# Altium integrated library TI Power Management Standard Voltage Regulator.IntLib: 214 symbols (part 4 of 7)
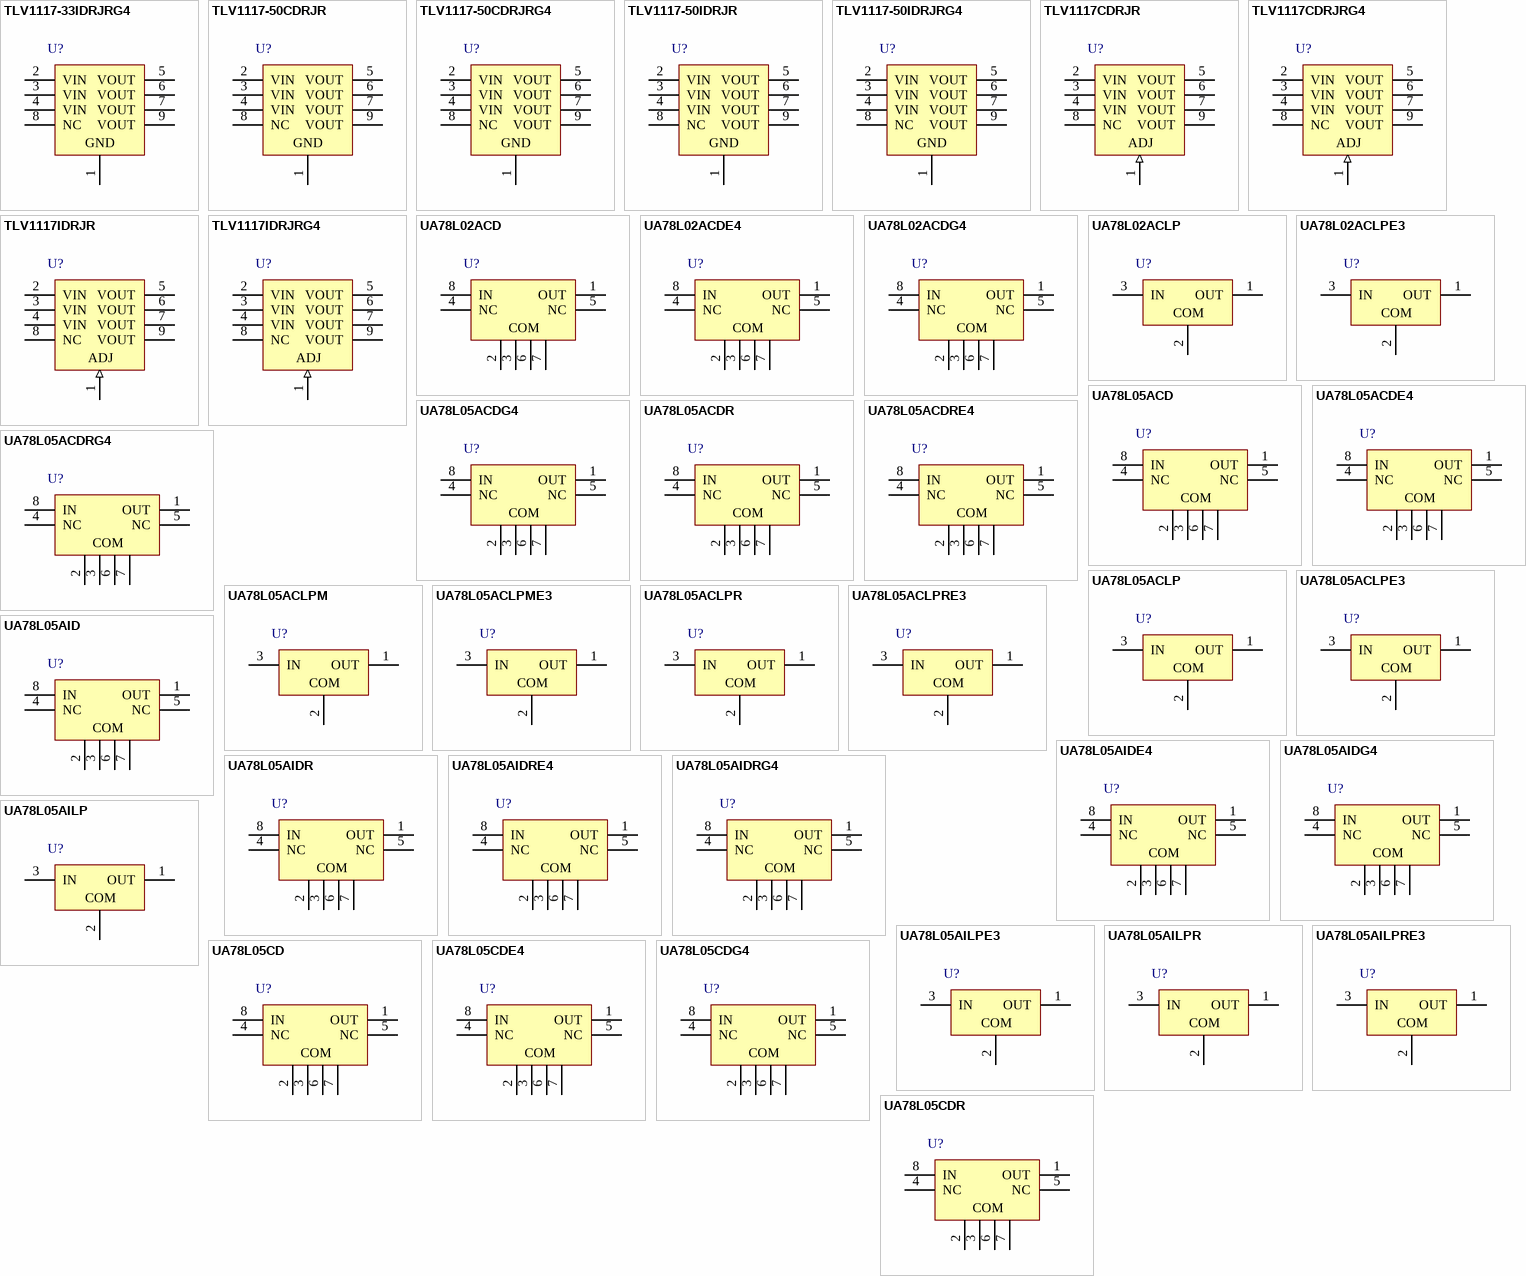
[diagram p9: symbols TLV1117-33IDRJRG4 to UA78L05CDR]

## TLV1117CDRJRG4
designator U?
LDO with 2.7 to 15 V Input and 1.25 to 13.7 V Output, 0 to 125 degC, 8-Pin SON (DRJ), Green (RoHS & no Sb/Br); Manufacturer: Texas Instruments; PartNumber: TLV1117CDRJRG4; Iout(Max)(A): 0.8; Iq(Typ)(mA): 5; Vin(Max)(V): 15; Vin(Min)(V): 2.7; Vout(Max)(V): 13.7; Vout(Min)(V): 1.25; DatasheetVersion: SLVS561J; PackageVersion: revC, Dec-2010; PackageReference: DRJ8-3000X2200TP; PackageDescription: 8-Pin Plastic Small Outline No-Lead, 4 x 4 x 0.8 mm Body, 0.8 mm Pitch, Exposed Pad; Supplier 1: Digi-Key; Supplier Part Number 1: TLV1117CDRJRG4-ND; Supplier 2: Newark; Supplier Part Number 2: 84K3788; Supplier 3: Mouser; Supplier Part Number 3: 595-TLV1117CDRJRG4; Eco-Plan: Green (RoHS & no Sb/Br); Mounting Technology: Surface Mount; ComponentLink1Description: Datasheet; ComponentLink1URL: http://www.ti.com/general/docs/lit/getliterature.tsp?genericPartNumber=TLV1117&fileType=pdf; ComponentLink2Description: Package Specification; ComponentLink2URL: http://www.ti.com/litv/pdf/mpds153b; ComponentLink3Description: URL Link1; ComponentLink3URL: Samples URL:http://www.ti.com/product/tlv1117#samples
footprint DRJ8-3000X2200TP (SON, 8-Leads, Body 4x4mm, Pitch 0.8mm, Thermal Pad 3x2.2mm, TI Recommended)
pins: 1 ADJ (in), 2 VIN (power), 3 VIN (power), 4 VIN (power), 5 VOUT (power), 6 VOUT (power), 7 VOUT (power), 8 NC, 9 VOUT (power)

## TLV1117IDRJR
designator U?
LDO with 2.7 to 15 V Input and 1.25 to 13.7 V Output, -40 to 125 degC, 8-Pin SON (DRJ), Green (RoHS & no Sb/Br); Manufacturer: Texas Instruments; PartNumber: TLV1117IDRJR; Iout(Max)(A): 0.8; Iq(Typ)(mA): 5; Vin(Max)(V): 15; Vin(Min)(V): 2.7; Vout(Max)(V): 13.7; Vout(Min)(V): 1.25; DatasheetVersion: SLVS561J; PackageVersion: revC, Dec-2010; PackageReference: DRJ8-3000X2200TP; PackageDescription: 8-Pin Plastic Small Outline No-Lead, 4 x 4 x 0.8 mm Body, 0.8 mm Pitch, Exposed Pad; Supplier 1: Digi-Key; Supplier Part Number 1: 296-19517-2-ND; Supplier 2: Digi-Key; Supplier Part Number 2: 296-19517-1-ND; Supplier 3: Digi-Key; Supplier Part Number 3: 296-19517-6-ND; Supplier 4: Newark; Supplier Part Number 4: 80K3288; Supplier 5: Mouser; Supplier Part Number 5: 595-TLV1117IDRJR; Eco-Plan: Green (RoHS & no Sb/Br); Mounting Technology: Surface Mount; ComponentLink1Description: Datasheet; ComponentLink1URL: http://www.ti.com/general/docs/lit/getliterature.tsp?genericPartNumber=TLV1117&fileType=pdf; ComponentLink2Description: Package Specification; ComponentLink2URL: http://www.ti.com/litv/pdf/mpds153b; ComponentLink3Description: URL Link1; ComponentLink3URL: Samples URL:http://www.ti.com/product/tlv1117#samples
footprint DRJ8-3000X2200TP (SON, 8-Leads, Body 4x4mm, Pitch 0.8mm, Thermal Pad 3x2.2mm, TI Recommended)
pins: 1 ADJ (in), 2 VIN (power), 3 VIN (power), 4 VIN (power), 5 VOUT (power), 6 VOUT (power), 7 VOUT (power), 8 NC, 9 VOUT (power)

## TLV1117IDRJRG4
designator U?
LDO with 2.7 to 15 V Input and 1.25 to 13.7 V Output, -40 to 125 degC, 8-Pin SON (DRJ), Green (RoHS & no Sb/Br); Manufacturer: Texas Instruments; PartNumber: TLV1117IDRJRG4; Iout(Max)(A): 0.8; Iq(Typ)(mA): 5; Vin(Max)(V): 15; Vin(Min)(V): 2.7; Vout(Max)(V): 13.7; Vout(Min)(V): 1.25; DatasheetVersion: SLVS561J; PackageVersion: revC, Dec-2010; PackageReference: DRJ8-3000X2200TP; PackageDescription: 8-Pin Plastic Small Outline No-Lead, 4 x 4 x 0.8 mm Body, 0.8 mm Pitch, Exposed Pad; Supplier 1: Digi-Key; Supplier Part Number 1: TLV1117IDRJRG4-ND; Supplier 2: Newark; Supplier Part Number 2: 84K3790; Supplier 3: Mouser; Supplier Part Number 3: 595-TLV1117IDRJRG4; Eco-Plan: Green (RoHS & no Sb/Br); Mounting Technology: Surface Mount; ComponentLink1Description: Datasheet; ComponentLink1URL: http://www.ti.com/general/docs/lit/getliterature.tsp?genericPartNumber=TLV1117&fileType=pdf; ComponentLink2Description: Package Specification; ComponentLink2URL: http://www.ti.com/litv/pdf/mpds153b; ComponentLink3Description: URL Link1; ComponentLink3URL: Samples URL:http://www.ti.com/product/tlv1117#samples
footprint DRJ8-3000X2200TP (SON, 8-Leads, Body 4x4mm, Pitch 0.8mm, Thermal Pad 3x2.2mm, TI Recommended)
pins: 1 ADJ (in), 2 VIN (power), 3 VIN (power), 4 VIN (power), 5 VOUT (power), 6 VOUT (power), 7 VOUT (power), 8 NC, 9 VOUT (power)

## UA78L02ACD
designator U?
Fixed Regulator with 4.75 to 20 V Input and 2.6 V Output, 0 to 125 degC, 8-Pin SOIC (D), Green (RoHS & no Sb/Br); Manufacturer: Texas Instruments; PartNumber: UA78L02ACD; Iout(Max)(A): 0.1; Iq(Typ)(mA): 6; Vin(Max)(V): 20; Vin(Min)(V): 4.75; Vout(Max)(V): 2.6; DatasheetVersion: SLVS010S; PackageVersion: revM, Jun-2011; PackageReference: D8; PackageDescription: 8-Pin Plastic Small Outline Integrated Circuit, 4.9 x 3.9 mm, Pitch 1.27 mm Pitch; Supplier 1: Digi-Key; Supplier Part Number 1: 296-11116-5-ND; Supplier 2: Farnell; Supplier Part Number 2: 1461073; Supplier 3: Newark; Supplier Part Number 3: 77C1853; Supplier 4: Mouser; Supplier Part Number 4: 595-UA78L02ACD; Eco-Plan: Green (RoHS & no Sb/Br); Vout(Min)(V): 2.6; Mounting Technology: Surface Mount; Code_JEDEC: MS-012AA; ComponentLink1Description: Datasheet; ComponentLink1URL: http://www.ti.com/general/docs/lit/getliterature.tsp?genericPartNumber=UA78L02A&fileType=pdf; ComponentLink2Description: Package Specification; ComponentLink2URL: http://www.ti.com/litv/pdf/msoi002j; ComponentLink3Description: URL Link1; ComponentLink3URL: Samples URL:http://www.ti.com/product/ua78l02a#samples
footprint D8_N (SOIC, 8-Leads, Body 4.9x3.9mm, Pitch 1.27mm, IPC Medium Density)
footprint D8_L (SOIC, 8-Leads, Body 4.9x3.9mm, Pitch 1.27mm, IPC High Density)
footprint D8_M (SOIC, 8-Leads, Body 4.9x3.9mm, Pitch 1.27mm, IPC Low Density)
pins: 1 OUT (power), 2 COM (power), 3 COM (power), 4 NC, 5 NC, 6 COM (power), 7 COM (power), 8 IN (power)

## UA78L02ACDE4
designator U?
Fixed Regulator with 4.75 to 20 V Input and 2.6 V Output, 0 to 125 degC, 8-Pin SOIC (D), Green (RoHS & no Sb/Br); Manufacturer: Texas Instruments; PartNumber: UA78L02ACDE4; Iout(Max)(A): 0.1; Iq(Typ)(mA): 6; Vin(Max)(V): 20; Vin(Min)(V): 4.75; Vout(Max)(V): 2.6; DatasheetVersion: SLVS010S; PackageVersion: revM, Jun-2011; PackageReference: D8; PackageDescription: 8-Pin Plastic Small Outline Integrated Circuit, 4.9 x 3.9 mm, Pitch 1.27 mm Pitch; Supplier 1: Digi-Key; Supplier Part Number 1: UA78L02ACDE4-ND; Supplier 2: Newark; Supplier Part Number 2: 37K4709; Supplier 3: Mouser; Supplier Part Number 3: 595-UA78L02ACDE4; Eco-Plan: Green (RoHS & no Sb/Br); Vout(Min)(V): 2.6; Mounting Technology: Surface Mount; Code_JEDEC: MS-012AA; ComponentLink1Description: Datasheet; ComponentLink1URL: http://www.ti.com/general/docs/lit/getliterature.tsp?genericPartNumber=UA78L02A&fileType=pdf; ComponentLink2Description: Package Specification; ComponentLink2URL: http://www.ti.com/litv/pdf/msoi002j; ComponentLink3Description: URL Link1; ComponentLink3URL: Samples URL:http://www.ti.com/product/ua78l02a#samples
footprint D8_N (SOIC, 8-Leads, Body 4.9x3.9mm, Pitch 1.27mm, IPC Medium Density)
footprint D8_L (SOIC, 8-Leads, Body 4.9x3.9mm, Pitch 1.27mm, IPC High Density)
footprint D8_M (SOIC, 8-Leads, Body 4.9x3.9mm, Pitch 1.27mm, IPC Low Density)
pins: 1 OUT (power), 2 COM (power), 3 COM (power), 4 NC, 5 NC, 6 COM (power), 7 COM (power), 8 IN (power)

## UA78L02ACDG4
designator U?
Fixed Regulator with 4.75 to 20 V Input and 2.6 V Output, 0 to 125 degC, 8-Pin SOIC (D), Green (RoHS & no Sb/Br); Manufacturer: Texas Instruments; PartNumber: UA78L02ACDG4; Iout(Max)(A): 0.1; Iq(Typ)(mA): 6; SubFamily: Single Channel LDO; Vin(Max)(V): 20; Vin(Min)(V): 4.75; Vout(Max)(V): 2.6; DatasheetVersion: SLVS010S; PackageVersion: revM, Jun-2011; PackageReference: D8; PackageDescription: 8-Pin Plastic Small Outline Integrated Circuit, 4.9 x 3.9 mm, Pitch 1.27 mm Pitch; Supplier 1: Digi-Key; Supplier Part Number 1: UA78L02ACDG4-ND; Supplier 2: Newark; Supplier Part Number 2: 41M6393; Supplier 3: Mouser; Supplier Part Number 3: 595-UA78L02ACDG4; Eco-Plan: Green (RoHS & no Sb/Br); Vout(Min)(V): 2.6; Mounting Technology: Surface Mount; Code_JEDEC: MS-012AA; ComponentLink1Description: Datasheet; ComponentLink1URL: http://www.ti.com/general/docs/lit/getliterature.tsp?genericPartNumber=UA78L02A&fileType=pdf; ComponentLink2Description: Package Specification; ComponentLink2URL: http://www.ti.com/litv/pdf/msoi002j; ComponentLink3Description: URL Link1; ComponentLink3URL: Samples URL:http://www.ti.com/product/ua78l02a
footprint D8_N (SOIC, 8-Leads, Body 4.9x3.9mm, Pitch 1.27mm, IPC Medium Density)
footprint D8_L (SOIC, 8-Leads, Body 4.9x3.9mm, Pitch 1.27mm, IPC High Density)
footprint D8_M (SOIC, 8-Leads, Body 4.9x3.9mm, Pitch 1.27mm, IPC Low Density)
pins: 1 OUT (power), 2 COM (power), 3 COM (power), 4 NC, 5 NC, 6 COM (power), 7 COM (power), 8 IN (power)

## UA78L02ACLP
designator U?
Fixed Regulator with 4.75 to 20 V Input and 2.6 V Output, 0 to 125 degC, 3-Pin TO-92 (LP), Pb-Free (RoHS); Manufacturer: Texas Instruments; PartNumber: UA78L02ACLP; Iout(Max)(A): 0.1; Iq(Typ)(mA): 6; Vin(Max)(V): 20; Vin(Min)(V): 4.75; Vout(Max)(V): 2.6; DatasheetVersion: SLVS010S; PackageVersion: revC, Oct-2001; PackageReference: LP3; PackageDescription: Plastic Cylindrical Package, Formed Lead Option (TO-92); Supplier 1: Digi-Key; Supplier Part Number 1: 296-11117-5-ND; Supplier 2: Newark; Supplier Part Number 2: 14P7576; Supplier 3: Mouser; Supplier Part Number 3: 595-UA78L02ACLP; Eco-Plan: Pb-Free (RoHS); Vout(Min)(V): 2.6; Mounting Technology: Through Hole; Code_JEDEC: TO-226-AA; ComponentLink1Description: Datasheet; ComponentLink1URL: http://www.ti.com/general/docs/lit/getliterature.tsp?genericPartNumber=UA78L02A&fileType=pdf; ComponentLink2Description: Package Specification; ComponentLink2URL: http://www.ti.com/litv/pdf/msot002a; ComponentLink3Description: URL Link1; ComponentLink3URL: Samples URL:http://www.ti.com/product/ua78l02a#samples
footprint LP3 (TO, Flat Index; 3 In-Line, Formed Axial Leads; Body Dia. 4.8mm; Leads 0.56 x 0.41 mm (max))
pins: 1 OUT (power), 2 COM (power), 3 IN (power)

## UA78L02ACLPE3
designator U?
Fixed Regulator with 4.75 to 20 V Input and 2.6 V Output, 0 to 125 degC, 3-Pin TO-92 (LP), Pb-Free (RoHS); Manufacturer: Texas Instruments; PartNumber: UA78L02ACLPE3; Iout(Max)(A): 0.1; Iq(Typ)(mA): 6; Vin(Max)(V): 20; Vin(Min)(V): 4.75; Vout(Max)(V): 2.6; DatasheetVersion: SLVS010S; PackageVersion: revC, Oct-2001; PackageReference: LP3; PackageDescription: Plastic Cylindrical Package, Formed Lead Option (TO-92); Supplier 1: Digi-Key; Supplier Part Number 1: UA78L02ACLPE3-ND; Supplier 2: Newark; Supplier Part Number 2: 70K5834; Supplier 3: Mouser; Supplier Part Number 3: 595-UA78L02ACLPE3; Eco-Plan: Pb-Free (RoHS); Vout(Min)(V): 2.6; Mounting Technology: Through Hole; Code_JEDEC: TO-226-AA; ComponentLink1Description: Datasheet; ComponentLink1URL: http://www.ti.com/general/docs/lit/getliterature.tsp?genericPartNumber=UA78L02A&fileType=pdf; ComponentLink2Description: Package Specification; ComponentLink2URL: http://www.ti.com/litv/pdf/msot002a; ComponentLink3Description: URL Link1; ComponentLink3URL: Samples URL:http://www.ti.com/product/ua78l02a#samples
footprint LP3 (TO, Flat Index; 3 In-Line, Formed Axial Leads; Body Dia. 4.8mm; Leads 0.56 x 0.41 mm (max))
pins: 1 OUT (power), 2 COM (power), 3 IN (power)

## UA78L05ACD
designator U?
Fixed Regulator with 7 to 20 V Input and 5 V Output, 0 to 125 degC, 8-Pin SOIC (D), Green (RoHS & no Sb/Br); Manufacturer: Texas Instruments; PartNumber: UA78L05ACD; Iout(Max)(A): 0.1; Iq(Typ)(mA): 6; SubFamily: Standard Voltage Regulator; Vin(Max)(V): 20; Vin(Min)(V): 7; Vout(Max)(V): 5; DatasheetVersion: SLVS010S; PackageVersion: revM, Jun-2011; PackageReference: D8; PackageDescription: 8-Pin Plastic Small Outline Integrated Circuit, 4.9 x 3.9 mm, Pitch 1.27 mm Pitch; Supplier 1: Digi-Key; Supplier Part Number 1: 296-1364-5-ND; Supplier 2: Farnell; Supplier Part Number 2: 9593845; Supplier 3: Newark; Supplier Part Number 3: 09F1481; Supplier 4: Mouser; Supplier Part Number 4: 595-UA78L05ACD; Eco-Plan: Green (RoHS & no Sb/Br); Vout(Min)(V): 5; Mounting Technology: Surface Mount; Code_JEDEC: MS-012AA; ComponentLink1Description: Datasheet; ComponentLink1URL: http://www.ti.com/general/docs/lit/getliterature.tsp?genericPartNumber=UA78L05A&fileType=pdf; ComponentLink2Description: Package Specification; ComponentLink2URL: http://www.ti.com/litv/pdf/msoi002j; ComponentLink3Description: URL Link1; ComponentLink3URL: Samples URL:http://www.ti.com/product/ua79m05#samples
footprint D8_N (SOIC, 8-Leads, Body 4.9x3.9mm, Pitch 1.27mm, IPC Medium Density)
footprint D8_L (SOIC, 8-Leads, Body 4.9x3.9mm, Pitch 1.27mm, IPC High Density)
footprint D8_M (SOIC, 8-Leads, Body 4.9x3.9mm, Pitch 1.27mm, IPC Low Density)
pins: 1 OUT (power), 2 COM (power), 3 COM (power), 4 NC, 5 NC, 6 COM (power), 7 COM (power), 8 IN (power)

## UA78L05ACDE4
designator U?
Fixed Regulator with 7 to 20 V Input and 5 V Output, 0 to 125 degC, 8-Pin SOIC (D), Green (RoHS & no Sb/Br); Manufacturer: Texas Instruments; PartNumber: UA78L05ACDE4; Iout(Max)(A): 0.1; Iq(Typ)(mA): 6; SubFamily: Single Channel LDO; Vin(Max)(V): 20; Vin(Min)(V): 7; Vout(Max)(V): 5; DatasheetVersion: SLVS010S; PackageVersion: revM, Jun-2011; PackageReference: D8; PackageDescription: 8-Pin Plastic Small Outline Integrated Circuit, 4.9 x 3.9 mm, Pitch 1.27 mm Pitch; Supplier 1: Digi-Key; Supplier Part Number 1: UA78L05ACDE4-ND; Supplier 2: Newark; Supplier Part Number 2: 40K9815; Supplier 3: Mouser; Supplier Part Number 3: 595-UA78L05ACDE4; Eco-Plan: Green (RoHS & no Sb/Br); Vout(Min)(V): 5; Mounting Technology: Surface Mount; Code_JEDEC: MS-012AA; ComponentLink1Description: Datasheet; ComponentLink1URL: http://www.ti.com/general/docs/lit/getliterature.tsp?genericPartNumber=UA78L05A&fileType=pdf; ComponentLink2Description: Package Specification; ComponentLink2URL: http://www.ti.com/litv/pdf/msoi002j; ComponentLink3Description: URL Link1; ComponentLink3URL: Samples URL:http://www.ti.com/product/ua79m05#samples
footprint D8_N (SOIC, 8-Leads, Body 4.9x3.9mm, Pitch 1.27mm, IPC Medium Density)
footprint D8_L (SOIC, 8-Leads, Body 4.9x3.9mm, Pitch 1.27mm, IPC High Density)
footprint D8_M (SOIC, 8-Leads, Body 4.9x3.9mm, Pitch 1.27mm, IPC Low Density)
pins: 1 OUT (power), 2 COM (power), 3 COM (power), 4 NC, 5 NC, 6 COM (power), 7 COM (power), 8 IN (power)

## UA78L05ACDG4
designator U?
Fixed Regulator with 7 to 20 V Input and 5 V Output, 0 to 125 degC, 8-Pin SOIC (D), Green (RoHS & no Sb/Br); Manufacturer: Texas Instruments; PartNumber: UA78L05ACDG4; Iout(Max)(A): 0.1; Iq(Typ)(mA): 6; SubFamily: Single Channel LDO; Vin(Max)(V): 20; Vin(Min)(V): 7; Vout(Max)(V): 5; DatasheetVersion: SLVS010S; PackageVersion: revM, Jun-2011; PackageReference: D8; PackageDescription: 8-Pin Plastic Small Outline Integrated Circuit, 4.9 x 3.9 mm, Pitch 1.27 mm Pitch; Supplier 1: Digi-Key; Supplier Part Number 1: UA78L05ACDG4-ND; Supplier 2: Farnell; Supplier Part Number 2: 1236589; Supplier 3: Newark; Supplier Part Number 3: 13M5625; Supplier 4: Newark; Supplier Part Number 4: 40K9816; Supplier 5: Mouser; Supplier Part Number 5: 595-UA78L05ACDG4; Eco-Plan: Green (RoHS & no Sb/Br); Vout(Min)(V): 5; Mounting Technology: Surface Mount; Code_JEDEC: MS-012AA; ComponentLink1Description: Datasheet; ComponentLink1URL: http://www.ti.com/general/docs/lit/getliterature.tsp?genericPartNumber=UA78L05A&fileType=pdf; ComponentLink2Description: Package Specification; ComponentLink2URL: http://www.ti.com/litv/pdf/msoi002j; ComponentLink3Description: URL Link1; ComponentLink3URL: Samples URL:http://www.ti.com/product/ua79m05#samples
footprint D8_N (SOIC, 8-Leads, Body 4.9x3.9mm, Pitch 1.27mm, IPC Medium Density)
footprint D8_L (SOIC, 8-Leads, Body 4.9x3.9mm, Pitch 1.27mm, IPC High Density)
footprint D8_M (SOIC, 8-Leads, Body 4.9x3.9mm, Pitch 1.27mm, IPC Low Density)
pins: 1 OUT (power), 2 COM (power), 3 COM (power), 4 NC, 5 NC, 6 COM (power), 7 COM (power), 8 IN (power)

## UA78L05ACDR
designator U?
Fixed Regulator with 7 to 20 V Input and 5 V Output, 0 to 125 degC, 8-Pin SOIC (D), Green (RoHS & no Sb/Br); Manufacturer: Texas Instruments; PartNumber: UA78L05ACDR; Iout(Max)(A): 0.1; Iq(Typ)(mA): 6; Vin(Max)(V): 20; Vin(Min)(V): 7; Vout(Max)(V): 5; DatasheetVersion: SLVS010S; PackageVersion: revM, Jun-2011; PackageReference: D8; PackageDescription: 8-Pin Plastic Small Outline Integrated Circuit, 4.9 x 3.9 mm, Pitch 1.27 mm Pitch; Supplier 1: Digi-Key; Supplier Part Number 1: 296-1364-2-ND; Supplier 2: Digi-Key; Supplier Part Number 2: 296-1364-1-ND; Supplier 3: Digi-Key; Supplier Part Number 3: 296-1364-6-ND; Supplier 4: Farnell; Supplier Part Number 4: 7528966; Supplier 5: Newark; Supplier Part Number 5: 77C1854; Supplier 6: Mouser; Supplier Part Number 6: 595-UA78L05ACDR; Eco-Plan: Green (RoHS & no Sb/Br); Vout(Min)(V): 5; Mounting Technology: Surface Mount; Code_JEDEC: MS-012AA; ComponentLink1Description: Datasheet; ComponentLink1URL: http://www.ti.com/general/docs/lit/getliterature.tsp?genericPartNumber=UA78L05A&fileType=pdf; ComponentLink2Description: Package Specification; ComponentLink2URL: http://www.ti.com/litv/pdf/msoi002j; ComponentLink3Description: URL Link1; ComponentLink3URL: Samples URL:http://www.ti.com/product/ua79m05#samples
footprint D8_N (SOIC, 8-Leads, Body 4.9x3.9mm, Pitch 1.27mm, IPC Medium Density)
footprint D8_L (SOIC, 8-Leads, Body 4.9x3.9mm, Pitch 1.27mm, IPC High Density)
footprint D8_M (SOIC, 8-Leads, Body 4.9x3.9mm, Pitch 1.27mm, IPC Low Density)
pins: 1 OUT (power), 2 COM (power), 3 COM (power), 4 NC, 5 NC, 6 COM (power), 7 COM (power), 8 IN (power)

## UA78L05ACDRE4
designator U?
Fixed Regulator with 7 to 20 V Input and 5 V Output, 0 to 125 degC, 8-Pin SOIC (D), Green (RoHS & no Sb/Br); Manufacturer: Texas Instruments; PartNumber: UA78L05ACDRE4; Iout(Max)(A): 0.1; Iq(Typ)(mA): 6; Vin(Max)(V): 20; Vin(Min)(V): 7; Vout(Max)(V): 5; DatasheetVersion: SLVS010S; PackageVersion: revM, Jun-2011; PackageReference: D8; PackageDescription: 8-Pin Plastic Small Outline Integrated Circuit, 4.9 x 3.9 mm, Pitch 1.27 mm Pitch; Supplier 1: Digi-Key; Supplier Part Number 1: UA78L05ACDRE4-ND; Supplier 2: Newark; Supplier Part Number 2: 40K9817; Supplier 3: Mouser; Supplier Part Number 3: 595-UA78L05ACDRE4; Eco-Plan: Green (RoHS & no Sb/Br); Vout(Min)(V): 5; Mounting Technology: Surface Mount; Code_JEDEC: MS-012AA; ComponentLink1Description: Datasheet; ComponentLink1URL: http://www.ti.com/general/docs/lit/getliterature.tsp?genericPartNumber=UA78L05A&fileType=pdf; ComponentLink2Description: Package Specification; ComponentLink2URL: http://www.ti.com/litv/pdf/msoi002j; ComponentLink3Description: URL Link1; ComponentLink3URL: Samples URL:http://www.ti.com/product/ua79m05#samples
footprint D8_N (SOIC, 8-Leads, Body 4.9x3.9mm, Pitch 1.27mm, IPC Medium Density)
footprint D8_L (SOIC, 8-Leads, Body 4.9x3.9mm, Pitch 1.27mm, IPC High Density)
footprint D8_M (SOIC, 8-Leads, Body 4.9x3.9mm, Pitch 1.27mm, IPC Low Density)
pins: 1 OUT (power), 2 COM (power), 3 COM (power), 4 NC, 5 NC, 6 COM (power), 7 COM (power), 8 IN (power)

## UA78L05ACDRG4
designator U?
Fixed Regulator with 7 to 20 V Input and 5 V Output, 0 to 125 degC, 8-Pin SOIC (D), Green (RoHS & no Sb/Br); Manufacturer: Texas Instruments; PartNumber: UA78L05ACDRG4; Iout(Max)(A): 0.1; Iq(Typ)(mA): 6; Vin(Max)(V): 20; Vin(Min)(V): 7; Vout(Max)(V): 5; DatasheetVersion: SLVS010S; PackageVersion: revM, Jun-2011; PackageReference: D8; PackageDescription: 8-Pin Plastic Small Outline Integrated Circuit, 4.9 x 3.9 mm, Pitch 1.27 mm Pitch; Supplier 1: Digi-Key; Supplier Part Number 1: 296-31997-2-ND; Supplier 2: Digi-Key; Supplier Part Number 2: 296-31997-1-ND; Supplier 3: Digi-Key; Supplier Part Number 3: 296-31997-6-ND; Supplier 4: Newark; Supplier Part Number 4: 40K9818; Supplier 5: Mouser; Supplier Part Number 5: 595-UA78L05ACDRG4; Eco-Plan: Green (RoHS & no Sb/Br); Vout(Min)(V): 5; Mounting Technology: Surface Mount; Code_JEDEC: MS-012AA; ComponentLink1Description: Datasheet; ComponentLink1URL: http://www.ti.com/general/docs/lit/getliterature.tsp?genericPartNumber=UA78L05A&fileType=pdf; ComponentLink2Description: Package Specification; ComponentLink2URL: http://www.ti.com/litv/pdf/msoi002j; ComponentLink3Description: URL Link1; ComponentLink3URL: Samples URL:http://www.ti.com/product/ua79m05#samples
footprint D8_N (SOIC, 8-Leads, Body 4.9x3.9mm, Pitch 1.27mm, IPC Medium Density)
footprint D8_L (SOIC, 8-Leads, Body 4.9x3.9mm, Pitch 1.27mm, IPC High Density)
footprint D8_M (SOIC, 8-Leads, Body 4.9x3.9mm, Pitch 1.27mm, IPC Low Density)
pins: 1 OUT (power), 2 COM (power), 3 COM (power), 4 NC, 5 NC, 6 COM (power), 7 COM (power), 8 IN (power)

## UA78L05ACLP
designator U?
Fixed Regulator with 7 to 20 V Input and 5 V Output, 0 to 125 degC, 3-Pin TO-92 (LP), Pb-Free (RoHS); Manufacturer: Texas Instruments; PartNumber: UA78L05ACLP; Iout(Max)(A): 0.1; Iq(Typ)(mA): 6; Vin(Max)(V): 20; Vin(Min)(V): 7; Vout(Max)(V): 5; DatasheetVersion: SLVS010S; PackageVersion: revC, Oct-2001; PackageReference: LP3; PackageDescription: Plastic Cylindrical Package, Formed Lead Option (TO-92); Supplier 1: Digi-Key; Supplier Part Number 1: 296-1365-ND; Supplier 2: Farnell; Supplier Part Number 2: 9593853; Supplier 3: Farnell; Supplier Part Number 3: 9593853RL; Supplier 4: Newark; Supplier Part Number 4: 14P7577; Supplier 5: Mouser; Supplier Part Number 5: 595-UA78L05ACLP; Eco-Plan: Pb-Free (RoHS); Vout(Min)(V): 5; Mounting Technology: Through Hole; Code_JEDEC: TO-226-AA; ComponentLink1Description: Datasheet; ComponentLink1URL: http://www.ti.com/general/docs/lit/getliterature.tsp?genericPartNumber=UA78L05A&fileType=pdf; ComponentLink2Description: Package Specification; ComponentLink2URL: http://www.ti.com/litv/pdf/msot002a; ComponentLink3Description: URL Link1; ComponentLink3URL: Samples URL:http://www.ti.com/product/ua79m05#samples
footprint LP3 (TO, Flat Index; 3 In-Line, Formed Axial Leads; Body Dia. 4.8mm; Leads 0.56 x 0.41 mm (max))
pins: 1 OUT (power), 2 COM (power), 3 IN (power)

## UA78L05ACLPE3
designator U?
Fixed Regulator with 7 to 20 V Input and 5 V Output, 0 to 125 degC, 3-Pin TO-92 (LP), Pb-Free (RoHS); Manufacturer: Texas Instruments; PartNumber: UA78L05ACLPE3; Iout(Max)(A): 0.1; Iq(Typ)(mA): 6; SubFamily: Standard Voltage Regulator; Vin(Max)(V): 20; Vin(Min)(V): 7; Vout(Max)(V): 5; DatasheetVersion: SLVS010S; PackageVersion: revC, Oct-2001; PackageReference: LP3; PackageDescription: Plastic Cylindrical Package, Formed Lead Option (TO-92); Supplier 1: Digi-Key; Supplier Part Number 1: UA78L05ACLPE3-ND; Supplier 2: Newark; Supplier Part Number 2: 70K5835; Supplier 3: Mouser; Supplier Part Number 3: 595-UA78L05ACLPE3; Eco-Plan: Pb-Free (RoHS); Vout(Min)(V): 5; Mounting Technology: Through Hole; Code_JEDEC: TO-226-AA; ComponentLink1Description: Datasheet; ComponentLink1URL: http://www.ti.com/general/docs/lit/getliterature.tsp?genericPartNumber=UA78L05A&fileType=pdf; ComponentLink2Description: Package Specification; ComponentLink2URL: http://www.ti.com/litv/pdf/msot002a; ComponentLink3Description: URL Link1; ComponentLink3URL: Samples URL:http://www.ti.com/product/ua79m05#samples
footprint LP3 (TO, Flat Index; 3 In-Line, Formed Axial Leads; Body Dia. 4.8mm; Leads 0.56 x 0.41 mm (max))
pins: 1 OUT (power), 2 COM (power), 3 IN (power)

## UA78L05ACLPM
designator U?
Fixed Regulator with 7 to 20 V Input and 5 V Output, 0 to 125 degC, 3-Pin TO-92 (LP), Pb-Free (RoHS); Manufacturer: Texas Instruments; PartNumber: UA78L05ACLPM; Iout(Max)(A): 0.1; Iq(Typ)(mA): 6; Vin(Max)(V): 20; Vin(Min)(V): 7; Vout(Max)(V): 5; DatasheetVersion: SLVS010S; PackageVersion: revC, Oct-2001; PackageReference: LP3; PackageDescription: Plastic Cylindrical Package, Formed Lead Option (TO-92); Supplier 1: Digi-Key; Supplier Part Number 1: 296-31447-3-ND; Supplier 2: Digi-Key; Supplier Part Number 2: 296-31447-1-ND; Supplier 3: Newark; Supplier Part Number 3: 02E7293; Supplier 4: Mouser; Supplier Part Number 4: 595-UA78L05ACLPM; Eco-Plan: Pb-Free (RoHS); Vout(Min)(V): 5; Mounting Technology: Through Hole; Code_JEDEC: TO-226-AA; ComponentLink1Description: Datasheet; ComponentLink1URL: http://www.ti.com/general/docs/lit/getliterature.tsp?genericPartNumber=UA78L05A&fileType=pdf; ComponentLink2Description: Package Specification; ComponentLink2URL: http://www.ti.com/litv/pdf/msot002a; ComponentLink3Description: URL Link1; ComponentLink3URL: Samples URL:http://www.ti.com/product/ua79m05#samples
footprint LP3 (TO, Flat Index; 3 In-Line, Formed Axial Leads; Body Dia. 4.8mm; Leads 0.56 x 0.41 mm (max))
pins: 1 OUT (power), 2 COM (power), 3 IN (power)

## UA78L05ACLPME3
designator U?
Fixed Regulator with 7 to 20 V Input and 5 V Output, 0 to 125 degC, 3-Pin TO-92 (LP), Pb-Free (RoHS); Manufacturer: Texas Instruments; PartNumber: UA78L05ACLPME3; Eco-Plan: Green (RoHS & no Sb/Br); Iout(Max)(A): 0.1; Iq(Typ)(mA): 6; SubFamily: Single Channel LDO; Vin(Max)(V): 20; Vin(Min)(V): 7; Vout(Max)(V): 5; DatasheetVersion: SLVS010S; PackageVersion: revC, Oct-2001; PackageReference: LP3; PackageDescription: Plastic Cylindrical Package, Formed Lead Option (TO-92); Supplier 1: Digi-Key; Supplier Part Number 1: UA78L05ACLPME3-ND; Supplier 2: Newark; Supplier Part Number 2: 70K5836; Supplier 3: Mouser; Supplier Part Number 3: 595-UA78L05ACLPME3; Vout(Min)(V): 5; Mounting Technology: Through Hole; Code_JEDEC: TO-226-AA; ComponentLink1Description: Datasheet; ComponentLink1URL: http://www.ti.com/general/docs/lit/getliterature.tsp?genericPartNumber=UA78L05A&fileType=pdf; ComponentLink2Description: Package Specification; ComponentLink2URL: http://www.ti.com/litv/pdf/msot002a; ComponentLink3Description: URL Link1; ComponentLink3URL: Samples URL:http://www.ti.com/product/ua79m05#samples
footprint LP3 (TO, Flat Index; 3 In-Line, Formed Axial Leads; Body Dia. 4.8mm; Leads 0.56 x 0.41 mm (max))
pins: 1 OUT (power), 2 COM (power), 3 IN (power)

## UA78L05ACLPR
designator U?
Fixed Regulator with 7 to 20 V Input and 5 V Output, 0 to 125 degC, 3-Pin TO-92 (LP), Pb-Free (RoHS); Manufacturer: Texas Instruments; PartNumber: UA78L05ACLPR; Iout(Max)(A): 0.1; Iq(Typ)(mA): 6; SubFamily: Single Channel LDO; Vin(Max)(V): 20; Vin(Min)(V): 7; Vout(Max)(V): 5; DatasheetVersion: SLVS010S; PackageVersion: revC, Oct-2001; PackageReference: LP3; PackageDescription: Plastic Cylindrical Package, Formed Lead Option (TO-92); Supplier 1: Digi-Key; Supplier Part Number 1: 296-1365-2-ND; Supplier 2: Digi-Key; Supplier Part Number 2: 296-1365-1-ND; Supplier 3: Digi-Key; Supplier Part Number 3: 296-1365-6-ND; Supplier 4: Newark; Supplier Part Number 4: 77C1855; Supplier 5: Mouser; Supplier Part Number 5: 595-UA78L05ACLPR; Eco-Plan: Pb-Free (RoHS); Vout(Min)(V): 5; Mounting Technology: Through Hole; Code_JEDEC: TO-226-AA; ComponentLink1Description: Datasheet; ComponentLink1URL: http://www.ti.com/general/docs/lit/getliterature.tsp?genericPartNumber=UA78L05A&fileType=pdf; ComponentLink2Description: Package Specification; ComponentLink2URL: http://www.ti.com/litv/pdf/msot002a; ComponentLink3Description: URL Link1; ComponentLink3URL: Samples URL:http://www.ti.com/product/ua79m05#samples
footprint LP3 (TO, Flat Index; 3 In-Line, Formed Axial Leads; Body Dia. 4.8mm; Leads 0.56 x 0.41 mm (max))
pins: 1 OUT (power), 2 COM (power), 3 IN (power)

## UA78L05ACLPRE3
designator U?
Fixed Regulator with 7 to 20 V Input and 5 V Output, 0 to 125 degC, 3-Pin TO-92 (LP), Pb-Free (RoHS); Manufacturer: Texas Instruments; PartNumber: UA78L05ACLPRE3; Iout(Max)(A): 0.1; Iq(Typ)(mA): 6; SubFamily: Single Channel LDO; Vin(Max)(V): 20; Vin(Min)(V): 7; Vout(Max)(V): 5; DatasheetVersion: SLVS010S; PackageVersion: revC, Oct-2001; PackageReference: LP3; PackageDescription: Plastic Cylindrical Package, Formed Lead Option (TO-92); Supplier 1: Digi-Key; Supplier Part Number 1: UA78L05ACLPRE3-ND; Supplier 2: Newark; Supplier Part Number 2: 52K5955; Supplier 3: Mouser; Supplier Part Number 3: 595-UA78L05ACLPRE3; Eco-Plan: Pb-Free (RoHS); Vout(Min)(V): 5; Mounting Technology: Through Hole; Code_JEDEC: TO-226-AA; ComponentLink1Description: Datasheet; ComponentLink1URL: http://www.ti.com/general/docs/lit/getliterature.tsp?genericPartNumber=UA78L05A&fileType=pdf; ComponentLink2Description: Package Specification; ComponentLink2URL: http://www.ti.com/litv/pdf/msot002a; ComponentLink3Description: URL Link1; ComponentLink3URL: Samples URL:http://www.ti.com/product/ua79m05#samples
footprint LP3 (TO, Flat Index; 3 In-Line, Formed Axial Leads; Body Dia. 4.8mm; Leads 0.56 x 0.41 mm (max))
pins: 1 OUT (power), 2 COM (power), 3 IN (power)

## UA78L05AID
designator U?
Fixed Regulator with 7 to 20 V Input and 5 V Output, -40 to 125 degC, 8-Pin SOIC (D), Green (RoHS & no Sb/Br); Manufacturer: Texas Instruments; PartNumber: UA78L05AID; Iout(Max)(A): 0.1; Iq(Typ)(mA): 6; Vin(Max)(V): 20; Vin(Min)(V): 7; Vout(Max)(V): 5; DatasheetVersion: SLVS010S; PackageVersion: revM, Jun-2011; PackageReference: D8; PackageDescription: 8-Pin Plastic Small Outline Integrated Circuit, 4.9 x 3.9 mm, Pitch 1.27 mm Pitch; Supplier 1: Digi-Key; Supplier Part Number 1: 296-34700-5-ND; Supplier 2: Newark; Supplier Part Number 2: 01J1032; Supplier 3: Mouser; Supplier Part Number 3: 595-UA78L05AID; Eco-Plan: Green (RoHS & no Sb/Br); Vout(Min)(V): 5; Mounting Technology: Surface Mount; Code_JEDEC: MS-012AA; ComponentLink1Description: Datasheet; ComponentLink1URL: http://www.ti.com/general/docs/lit/getliterature.tsp?genericPartNumber=UA78L05A&fileType=pdf; ComponentLink2Description: Package Specification; ComponentLink2URL: http://www.ti.com/litv/pdf/msoi002j; ComponentLink3Description: URL Link1; ComponentLink3URL: Samples URL:http://www.ti.com/product/ua79m05#samples
footprint D8_N (SOIC, 8-Leads, Body 4.9x3.9mm, Pitch 1.27mm, IPC Medium Density)
footprint D8_L (SOIC, 8-Leads, Body 4.9x3.9mm, Pitch 1.27mm, IPC High Density)
footprint D8_M (SOIC, 8-Leads, Body 4.9x3.9mm, Pitch 1.27mm, IPC Low Density)
pins: 1 OUT (power), 2 COM (power), 3 COM (power), 4 NC, 5 NC, 6 COM (power), 7 COM (power), 8 IN (power)

## UA78L05AIDE4
designator U?
Fixed Regulator with 7 to 20 V Input and 5 V Output, -40 to 125 degC, 8-Pin SOIC (D), Green (RoHS & no Sb/Br); Manufacturer: Texas Instruments; PartNumber: UA78L05AIDE4; Iout(Max)(A): 0.1; Iq(Typ)(mA): 6; Vin(Max)(V): 20; Vin(Min)(V): 7; Vout(Max)(V): 5; DatasheetVersion: SLVS010S; PackageVersion: revM, Jun-2011; PackageReference: D8; PackageDescription: 8-Pin Plastic Small Outline Integrated Circuit, 4.9 x 3.9 mm, Pitch 1.27 mm Pitch; Supplier 1: Digi-Key; Supplier Part Number 1: UA78L05AIDE4-ND; Supplier 2: Newark; Supplier Part Number 2: 37K4710; Supplier 3: Mouser; Supplier Part Number 3: 595-UA78L05AIDE4; Eco-Plan: Green (RoHS & no Sb/Br); Vout(Min)(V): 5; Mounting Technology: Surface Mount; Code_JEDEC: MS-012AA; ComponentLink1Description: Datasheet; ComponentLink1URL: http://www.ti.com/general/docs/lit/getliterature.tsp?genericPartNumber=UA78L05A&fileType=pdf; ComponentLink2Description: Package Specification; ComponentLink2URL: http://www.ti.com/litv/pdf/msoi002j; ComponentLink3Description: URL Link1; ComponentLink3URL: Samples URL:http://www.ti.com/product/ua79m05#samples
footprint D8_N (SOIC, 8-Leads, Body 4.9x3.9mm, Pitch 1.27mm, IPC Medium Density)
footprint D8_L (SOIC, 8-Leads, Body 4.9x3.9mm, Pitch 1.27mm, IPC High Density)
footprint D8_M (SOIC, 8-Leads, Body 4.9x3.9mm, Pitch 1.27mm, IPC Low Density)
pins: 1 OUT (power), 2 COM (power), 3 COM (power), 4 NC, 5 NC, 6 COM (power), 7 COM (power), 8 IN (power)

## UA78L05AIDG4
designator U?
Fixed Regulator with 7 to 20 V Input and 5 V Output, -40 to 125 degC, 8-Pin SOIC (D), Green (RoHS & no Sb/Br); Manufacturer: Texas Instruments; PartNumber: UA78L05AIDG4; Iout(Max)(A): 0.1; Iq(Typ)(mA): 6; Vin(Max)(V): 20; Vin(Min)(V): 7; Vout(Max)(V): 5; DatasheetVersion: SLVS010S; PackageVersion: revM, Jun-2011; PackageReference: D8; PackageDescription: 8-Pin Plastic Small Outline Integrated Circuit, 4.9 x 3.9 mm, Pitch 1.27 mm Pitch; Supplier 1: Digi-Key; Supplier Part Number 1: UA78L05AIDG4-ND; Supplier 2: Newark; Supplier Part Number 2: 41M6394; Supplier 3: Mouser; Supplier Part Number 3: 595-UA78L05AIDG4; Eco-Plan: Green (RoHS & no Sb/Br); Vout(Min)(V): 5; Mounting Technology: Surface Mount; Code_JEDEC: MS-012AA; ComponentLink1Description: Datasheet; ComponentLink1URL: http://www.ti.com/general/docs/lit/getliterature.tsp?genericPartNumber=UA78L05A&fileType=pdf; ComponentLink2Description: Package Specification; ComponentLink2URL: http://www.ti.com/litv/pdf/msoi002j; ComponentLink3Description: URL Link1; ComponentLink3URL: Samples URL:http://www.ti.com/product/ua79m05#samples
footprint D8_N (SOIC, 8-Leads, Body 4.9x3.9mm, Pitch 1.27mm, IPC Medium Density)
footprint D8_L (SOIC, 8-Leads, Body 4.9x3.9mm, Pitch 1.27mm, IPC High Density)
footprint D8_M (SOIC, 8-Leads, Body 4.9x3.9mm, Pitch 1.27mm, IPC Low Density)
pins: 1 OUT (power), 2 COM (power), 3 COM (power), 4 NC, 5 NC, 6 COM (power), 7 COM (power), 8 IN (power)

## UA78L05AIDR
designator U?
Fixed Regulator with 7 to 20 V Input and 5 V Output, -40 to 125 degC, 8-Pin SOIC (D), Green (RoHS & no Sb/Br); Manufacturer: Texas Instruments; PartNumber: UA78L05AIDR; Iout(Max)(A): 0.1; Iq(Typ)(mA): 6; Vin(Max)(V): 20; Vin(Min)(V): 7; Vout(Max)(V): 5; DatasheetVersion: SLVS010S; PackageVersion: revM, Jun-2011; PackageReference: D8; PackageDescription: 8-Pin Plastic Small Outline Integrated Circuit, 4.9 x 3.9 mm, Pitch 1.27 mm Pitch; Supplier 1: Digi-Key; Supplier Part Number 1: 296-16903-2-ND; Supplier 2: Digi-Key; Supplier Part Number 2: 296-16903-1-ND; Supplier 3: Digi-Key; Supplier Part Number 3: 296-16903-6-ND; Supplier 4: Newark; Supplier Part Number 4: 01J1033; Supplier 5: Mouser; Supplier Part Number 5: 595-UA78L05AIDR; Eco-Plan: Green (RoHS & no Sb/Br); Vout(Min)(V): 5; Mounting Technology: Surface Mount; Code_JEDEC: MS-012AA; ComponentLink1Description: Datasheet; ComponentLink1URL: http://www.ti.com/general/docs/lit/getliterature.tsp?genericPartNumber=UA78L05A&fileType=pdf; ComponentLink2Description: Package Specification; ComponentLink2URL: http://www.ti.com/litv/pdf/msoi002j; ComponentLink3Description: URL Link1; ComponentLink3URL: Samples URL:http://www.ti.com/product/ua79m05#samples
footprint D8_N (SOIC, 8-Leads, Body 4.9x3.9mm, Pitch 1.27mm, IPC Medium Density)
footprint D8_L (SOIC, 8-Leads, Body 4.9x3.9mm, Pitch 1.27mm, IPC High Density)
footprint D8_M (SOIC, 8-Leads, Body 4.9x3.9mm, Pitch 1.27mm, IPC Low Density)
pins: 1 OUT (power), 2 COM (power), 3 COM (power), 4 NC, 5 NC, 6 COM (power), 7 COM (power), 8 IN (power)

## UA78L05AIDRE4
designator U?
Fixed Regulator with 7 to 20 V Input and 5 V Output, -40 to 125 degC, 8-Pin SOIC (D), Green (RoHS & no Sb/Br); Manufacturer: Texas Instruments; PartNumber: UA78L05AIDRE4; Iout(Max)(A): 0.1; Iq(Typ)(mA): 6; SubFamily: Single Channel LDO; Vin(Max)(V): 20; Vin(Min)(V): 7; Vout(Max)(V): 5; DatasheetVersion: SLVS010S; PackageVersion: revM, Jun-2011; PackageReference: D8; PackageDescription: 8-Pin Plastic Small Outline Integrated Circuit, 4.9 x 3.9 mm, Pitch 1.27 mm Pitch; Supplier 1: Digi-Key; Supplier Part Number 1: UA78L05AIDRE4-ND; Supplier 2: Newark; Supplier Part Number 2: 37K4711; Supplier 3: Mouser; Supplier Part Number 3: 595-UA78L05AIDRE4; Eco-Plan: Green (RoHS & no Sb/Br); Vout(Min)(V): 5; Mounting Technology: Surface Mount; Code_JEDEC: MS-012AA; ComponentLink1Description: Datasheet; ComponentLink1URL: http://www.ti.com/general/docs/lit/getliterature.tsp?genericPartNumber=UA78L05A&fileType=pdf; ComponentLink2Description: Package Specification; ComponentLink2URL: http://www.ti.com/litv/pdf/msoi002j; ComponentLink3Description: URL Link1; ComponentLink3URL: Samples URL:http://www.ti.com/product/ua78l05a
footprint D8_N (SOIC, 8-Leads, Body 4.9x3.9mm, Pitch 1.27mm, IPC Medium Density)
footprint D8_L (SOIC, 8-Leads, Body 4.9x3.9mm, Pitch 1.27mm, IPC High Density)
footprint D8_M (SOIC, 8-Leads, Body 4.9x3.9mm, Pitch 1.27mm, IPC Low Density)
pins: 1 OUT (power), 2 COM (power), 3 COM (power), 4 NC, 5 NC, 6 COM (power), 7 COM (power), 8 IN (power)

## UA78L05AIDRG4
designator U?
Fixed Regulator with 7 to 20 V Input and 5 V Output, -40 to 125 degC, 8-Pin SOIC (D), Green (RoHS & no Sb/Br); Manufacturer: Texas Instruments; PartNumber: UA78L05AIDRG4; Iout(Max)(A): 0.1; Iq(Typ)(mA): 6; Vin(Max)(V): 20; Vin(Min)(V): 7; Vout(Max)(V): 5; DatasheetVersion: SLVS010S; PackageVersion: revM, Jun-2011; PackageReference: D8; PackageDescription: 8-Pin Plastic Small Outline Integrated Circuit, 4.9 x 3.9 mm, Pitch 1.27 mm Pitch; Supplier 1: Digi-Key; Supplier Part Number 1: UA78L05AIDRG4-ND; Supplier 2: Newark; Supplier Part Number 2: 41M6395; Supplier 3: Mouser; Supplier Part Number 3: 595-UA78L05AIDRG4; Eco-Plan: Green (RoHS & no Sb/Br); Vout(Min)(V): 5; Mounting Technology: Surface Mount; Code_JEDEC: MS-012AA; ComponentLink1Description: Datasheet; ComponentLink1URL: http://www.ti.com/general/docs/lit/getliterature.tsp?genericPartNumber=UA78L05A&fileType=pdf; ComponentLink2Description: Package Specification; ComponentLink2URL: http://www.ti.com/litv/pdf/msoi002j; ComponentLink3Description: URL Link1; ComponentLink3URL: Samples URL:http://www.ti.com/product/ua79m05#samples
footprint D8_N (SOIC, 8-Leads, Body 4.9x3.9mm, Pitch 1.27mm, IPC Medium Density)
footprint D8_L (SOIC, 8-Leads, Body 4.9x3.9mm, Pitch 1.27mm, IPC High Density)
footprint D8_M (SOIC, 8-Leads, Body 4.9x3.9mm, Pitch 1.27mm, IPC Low Density)
pins: 1 OUT (power), 2 COM (power), 3 COM (power), 4 NC, 5 NC, 6 COM (power), 7 COM (power), 8 IN (power)

## UA78L05AILP
designator U?
Fixed Regulator with 7 to 20 V Input and 5 V Output, -40 to 125 degC, 3-Pin TO-92 (LP), Pb-Free (RoHS); Manufacturer: Texas Instruments; PartNumber: UA78L05AILP; Iout(Max)(A): 0.1; Iq(Typ)(mA): 6; Vin(Max)(V): 20; Vin(Min)(V): 7; Vout(Max)(V): 5; DatasheetVersion: SLVS010S; PackageVersion: revC, Oct-2001; PackageReference: LP3; PackageDescription: Plastic Cylindrical Package, Formed Lead Option (TO-92); Supplier 1: Digi-Key; Supplier Part Number 1: 296-11119-5-ND; Supplier 2: Farnell; Supplier Part Number 2: 2114113; Supplier 3: Newark; Supplier Part Number 3: 77C1857; Supplier 4: Mouser; Supplier Part Number 4: 595-UA78L05AILP; Eco-Plan: Pb-Free (RoHS); Vout(Min)(V): 5; Mounting Technology: Through Hole; Code_JEDEC: TO-226-AA; ComponentLink1Description: Datasheet; ComponentLink1URL: http://www.ti.com/general/docs/lit/getliterature.tsp?genericPartNumber=UA78L05A&fileType=pdf; ComponentLink2Description: Package Specification; ComponentLink2URL: http://www.ti.com/litv/pdf/msot002a; ComponentLink3Description: URL Link1; ComponentLink3URL: Samples URL:http://www.ti.com/product/ua78l05a
footprint LP3 (TO, Flat Index; 3 In-Line, Formed Axial Leads; Body Dia. 4.8mm; Leads 0.56 x 0.41 mm (max))
pins: 1 OUT (power), 2 COM (power), 3 IN (power)

## UA78L05AILPE3
designator U?
Fixed Regulator with 7 to 20 V Input and 5 V Output, -40 to 125 degC, 3-Pin TO-92 (LP), Pb-Free (RoHS); Manufacturer: Texas Instruments; PartNumber: UA78L05AILPE3; Iout(Max)(A): 0.1; Iq(Typ)(mA): 6; Vin(Max)(V): 20; Vin(Min)(V): 7; Vout(Max)(V): 5; DatasheetVersion: SLVS010S; PackageVersion: revC, Oct-2001; PackageReference: LP3; PackageDescription: Plastic Cylindrical Package, Formed Lead Option (TO-92); Supplier 1: Digi-Key; Supplier Part Number 1: UA78L05AILPE3-ND; Supplier 2: Farnell; Supplier Part Number 2: 1236591; Supplier 3: Newark; Supplier Part Number 3: 13M5627; Supplier 4: Mouser; Supplier Part Number 4: 595-UA78L05AILPE3; Eco-Plan: Pb-Free (RoHS); Vout(Min)(V): 5; Mounting Technology: Through Hole; Code_JEDEC: TO-226-AA; ComponentLink1Description: Datasheet; ComponentLink1URL: http://www.ti.com/general/docs/lit/getliterature.tsp?genericPartNumber=UA78L05A&fileType=pdf; ComponentLink2Description: Package Specification; ComponentLink2URL: http://www.ti.com/litv/pdf/msot002a; ComponentLink3Description: URL Link1; ComponentLink3URL: Samples URL:http://www.ti.com/product/ua78l05a
footprint LP3 (TO, Flat Index; 3 In-Line, Formed Axial Leads; Body Dia. 4.8mm; Leads 0.56 x 0.41 mm (max))
pins: 1 OUT (power), 2 COM (power), 3 IN (power)

## UA78L05AILPR
designator U?
Fixed Regulator with 7 to 20 V Input and 5 V Output, -40 to 125 degC, 3-Pin TO-92 (LP), Pb-Free (RoHS); Manufacturer: Texas Instruments; PartNumber: UA78L05AILPR; Iout(Max)(A): 0.1; Iq(Typ)(mA): 6; SubFamily: Single Channel LDO; Vin(Max)(V): 20; Vin(Min)(V): 7; Vout(Max)(V): 5; DatasheetVersion: SLVS010S; PackageVersion: revC, Oct-2001; PackageReference: LP3; PackageDescription: Plastic Cylindrical Package, Formed Lead Option (TO-92); Supplier 1: Digi-Key; Supplier Part Number 1: 296-27135-2-ND; Supplier 2: Digi-Key; Supplier Part Number 2: 296-27135-1-ND; Supplier 3: Newark; Supplier Part Number 3: 77C1858; Supplier 4: Mouser; Supplier Part Number 4: 595-UA78L05AILPR; Eco-Plan: Pb-Free (RoHS); Vout(Min)(V): 5; Mounting Technology: Through Hole; Code_JEDEC: TO-226-AA; ComponentLink1Description: Datasheet; ComponentLink1URL: http://www.ti.com/general/docs/lit/getliterature.tsp?genericPartNumber=UA78L05A&fileType=pdf; ComponentLink2Description: Package Specification; ComponentLink2URL: http://www.ti.com/litv/pdf/msot002a; ComponentLink3Description: URL Link1; ComponentLink3URL: Samples URL:http://www.ti.com/product/ua78l05a
footprint LP3 (TO, Flat Index; 3 In-Line, Formed Axial Leads; Body Dia. 4.8mm; Leads 0.56 x 0.41 mm (max))
pins: 1 OUT (power), 2 COM (power), 3 IN (power)

## UA78L05AILPRE3
designator U?
Fixed Regulator with 7 to 20 V Input and 5 V Output, -40 to 125 degC, 3-Pin TO-92 (LP), Pb-Free (RoHS); Manufacturer: Texas Instruments; PartNumber: UA78L05AILPRE3; Iout(Max)(A): 0.1; Iq(Typ)(mA): 6; Vin(Max)(V): 20; Vin(Min)(V): 7; Vout(Max)(V): 5; DatasheetVersion: SLVS010S; PackageVersion: revC, Oct-2001; PackageReference: LP3; PackageDescription: Plastic Cylindrical Package, Formed Lead Option (TO-92); Supplier 1: Digi-Key; Supplier Part Number 1: UA78L05AILPRE3-ND; Supplier 2: Newark; Supplier Part Number 2: 70K5838; Supplier 3: Mouser; Supplier Part Number 3: 595-UA78L05AILPRE3; Eco-Plan: Pb-Free (RoHS); Vout(Min)(V): 5; Mounting Technology: Through Hole; Code_JEDEC: TO-226-AA; ComponentLink1Description: Datasheet; ComponentLink1URL: http://www.ti.com/general/docs/lit/getliterature.tsp?genericPartNumber=UA78L05A&fileType=pdf; ComponentLink2Description: Package Specification; ComponentLink2URL: http://www.ti.com/litv/pdf/msot002a; ComponentLink3Description: URL Link1; ComponentLink3URL: Samples URL:http://www.ti.com/product/ua78l05a
footprint LP3 (TO, Flat Index; 3 In-Line, Formed Axial Leads; Body Dia. 4.8mm; Leads 0.56 x 0.41 mm (max))
pins: 1 OUT (power), 2 COM (power), 3 IN (power)

## UA78L05CD
designator U?
Fixed Regulator with 7 to 20 V Input and 5 V Output, 0 to 125 degC, 8-Pin SOIC (D), Green (RoHS & no Sb/Br); Manufacturer: Texas Instruments; PartNumber: UA78L05CD; Iout(Max)(A): 0.1; Iq(Typ)(mA): 6; SubFamily: Single Channel LDO; Vin(Max)(V): 20; Vin(Min)(V): 7; Vout(Max)(V): 5; DatasheetVersion: SLVS010S; PackageVersion: revM, Jun-2011; PackageReference: D8; PackageDescription: 8-Pin Plastic Small Outline Integrated Circuit, 4.9 x 3.9 mm, Pitch 1.27 mm Pitch; Supplier 1: Digi-Key; Supplier Part Number 1: 296-11120-5-ND; Supplier 2: Farnell; Supplier Part Number 2: 1460969; Supplier 3: Newark; Supplier Part Number 3: 77C1859; Supplier 4: Mouser; Supplier Part Number 4: 595-UA78L05CD; Eco-Plan: Green (RoHS & no Sb/Br); Vout(Min)(V): 5; Mounting Technology: Surface Mount; Code_JEDEC: MS-012AA; ComponentLink1Description: Datasheet; ComponentLink1URL: http://www.ti.com/general/docs/lit/getliterature.tsp?genericPartNumber=UA78L05&fileType=pdf; ComponentLink2Description: Package Specification; ComponentLink2URL: http://www.ti.com/litv/pdf/msoi002j; ComponentLink3Description: URL Link1; ComponentLink3URL: Samples URL:http://www.ti.com/product/ua78l05#samples
footprint D8_N (SOIC, 8-Leads, Body 4.9x3.9mm, Pitch 1.27mm, IPC Medium Density)
footprint D8_L (SOIC, 8-Leads, Body 4.9x3.9mm, Pitch 1.27mm, IPC High Density)
footprint D8_M (SOIC, 8-Leads, Body 4.9x3.9mm, Pitch 1.27mm, IPC Low Density)
pins: 1 OUT (power), 2 COM (power), 3 COM (power), 4 NC, 5 NC, 6 COM (power), 7 COM (power), 8 IN (power)

## UA78L05CDE4
designator U?
Fixed Regulator with 7 to 20 V Input and 5 V Output, 0 to 125 degC, 8-Pin SOIC (D), Green (RoHS & no Sb/Br); Manufacturer: Texas Instruments; PartNumber: UA78L05CDE4; Iout(Max)(A): 0.1; Iq(Typ)(mA): 6; SubFamily: Single Channel LDO; Vin(Max)(V): 20; Vin(Min)(V): 7; Vout(Max)(V): 5; DatasheetVersion: SLVS010S; PackageVersion: revM, Jun-2011; PackageReference: D8; PackageDescription: 8-Pin Plastic Small Outline Integrated Circuit, 4.9 x 3.9 mm, Pitch 1.27 mm Pitch; Supplier 1: Digi-Key; Supplier Part Number 1: UA78L05CDE4-ND; Supplier 2: Newark; Supplier Part Number 2: 37K4712; Supplier 3: Mouser; Supplier Part Number 3: 595-UA78L05CDE4; Eco-Plan: Green (RoHS & no Sb/Br); Vout(Min)(V): 5; Mounting Technology: Surface Mount; Code_JEDEC: MS-012AA; ComponentLink1Description: Datasheet; ComponentLink1URL: http://www.ti.com/general/docs/lit/getliterature.tsp?genericPartNumber=UA78L05&fileType=pdf; ComponentLink2Description: Package Specification; ComponentLink2URL: http://www.ti.com/litv/pdf/msoi002j; ComponentLink3Description: URL Link1; ComponentLink3URL: Samples URL:http://www.ti.com/product/ua78l05#samples
footprint D8_N (SOIC, 8-Leads, Body 4.9x3.9mm, Pitch 1.27mm, IPC Medium Density)
footprint D8_L (SOIC, 8-Leads, Body 4.9x3.9mm, Pitch 1.27mm, IPC High Density)
footprint D8_M (SOIC, 8-Leads, Body 4.9x3.9mm, Pitch 1.27mm, IPC Low Density)
pins: 1 OUT (power), 2 COM (power), 3 COM (power), 4 NC, 5 NC, 6 COM (power), 7 COM (power), 8 IN (power)

## UA78L05CDG4
designator U?
Fixed Regulator with 7 to 20 V Input and 5 V Output, 0 to 125 degC, 8-Pin SOIC (D), Green (RoHS & no Sb/Br); Manufacturer: Texas Instruments; PartNumber: UA78L05CDG4; Iout(Max)(A): 0.1; Iq(Typ)(mA): 6; SubFamily: Standard Voltage Regulator; Vin(Max)(V): 20; Vin(Min)(V): 7; Vout(Max)(V): 5; DatasheetVersion: SLVS010S; PackageVersion: revM, Jun-2011; PackageReference: D8; PackageDescription: 8-Pin Plastic Small Outline Integrated Circuit, 4.9 x 3.9 mm, Pitch 1.27 mm Pitch; Supplier 1: Digi-Key; Supplier Part Number 1: UA78L05CDG4-ND; Supplier 2: Newark; Supplier Part Number 2: 58K7028; Supplier 3: Mouser; Supplier Part Number 3: 595-UA78L05CDG4; Eco-Plan: Green (RoHS & no Sb/Br); Vout(Min)(V): 5; Mounting Technology: Surface Mount; Code_JEDEC: MS-012AA; ComponentLink1Description: Datasheet; ComponentLink1URL: http://www.ti.com/general/docs/lit/getliterature.tsp?genericPartNumber=UA78L05&fileType=pdf; ComponentLink2Description: Package Specification; ComponentLink2URL: http://www.ti.com/litv/pdf/msoi002j; ComponentLink3Description: URL Link1; ComponentLink3URL: Samples URL:http://www.ti.com/product/ua78l05#samples
footprint D8_N (SOIC, 8-Leads, Body 4.9x3.9mm, Pitch 1.27mm, IPC Medium Density)
footprint D8_L (SOIC, 8-Leads, Body 4.9x3.9mm, Pitch 1.27mm, IPC High Density)
footprint D8_M (SOIC, 8-Leads, Body 4.9x3.9mm, Pitch 1.27mm, IPC Low Density)
pins: 1 OUT (power), 2 COM (power), 3 COM (power), 4 NC, 5 NC, 6 COM (power), 7 COM (power), 8 IN (power)

## UA78L05CDR
designator U?
Fixed Regulator with 7 to 20 V Input and 5 V Output, 0 to 125 degC, 8-Pin SOIC (D), Green (RoHS & no Sb/Br); Manufacturer: Texas Instruments; PartNumber: UA78L05CDR; Iout(Max)(A): 0.1; Iq(Typ)(mA): 6; SubFamily: Standard Voltage Regulator; Vin(Max)(V): 20; Vin(Min)(V): 7; Vout(Max)(V): 5; DatasheetVersion: SLVS010S; PackageVersion: revM, Jun-2011; PackageReference: D8; PackageDescription: 8-Pin Plastic Small Outline Integrated Circuit, 4.9 x 3.9 mm, Pitch 1.27 mm Pitch; Supplier 1: Digi-Key; Supplier Part Number 1: 296-29452-2-ND; Supplier 2: Digi-Key; Supplier Part Number 2: 296-29452-1-ND; Supplier 3: Digi-Key; Supplier Part Number 3: 296-29452-6-ND; Supplier 4: Newark; Supplier Part Number 4: 77C1860; Supplier 5: Mouser; Supplier Part Number 5: 595-UA78L05CDR; Eco-Plan: Green (RoHS & no Sb/Br); Vout(Min)(V): 5; Mounting Technology: Surface Mount; Code_JEDEC: MS-012AA; ComponentLink1Description: Datasheet; ComponentLink1URL: http://www.ti.com/general/docs/lit/getliterature.tsp?genericPartNumber=UA78L05&fileType=pdf; ComponentLink2Description: Package Specification; ComponentLink2URL: http://www.ti.com/litv/pdf/msoi002j; ComponentLink3Description: URL Link1; ComponentLink3URL: Samples URL:http://www.ti.com/product/ua78l05#samples
footprint D8_N (SOIC, 8-Leads, Body 4.9x3.9mm, Pitch 1.27mm, IPC Medium Density)
footprint D8_L (SOIC, 8-Leads, Body 4.9x3.9mm, Pitch 1.27mm, IPC High Density)
footprint D8_M (SOIC, 8-Leads, Body 4.9x3.9mm, Pitch 1.27mm, IPC Low Density)
pins: 1 OUT (power), 2 COM (power), 3 COM (power), 4 NC, 5 NC, 6 COM (power), 7 COM (power), 8 IN (power)

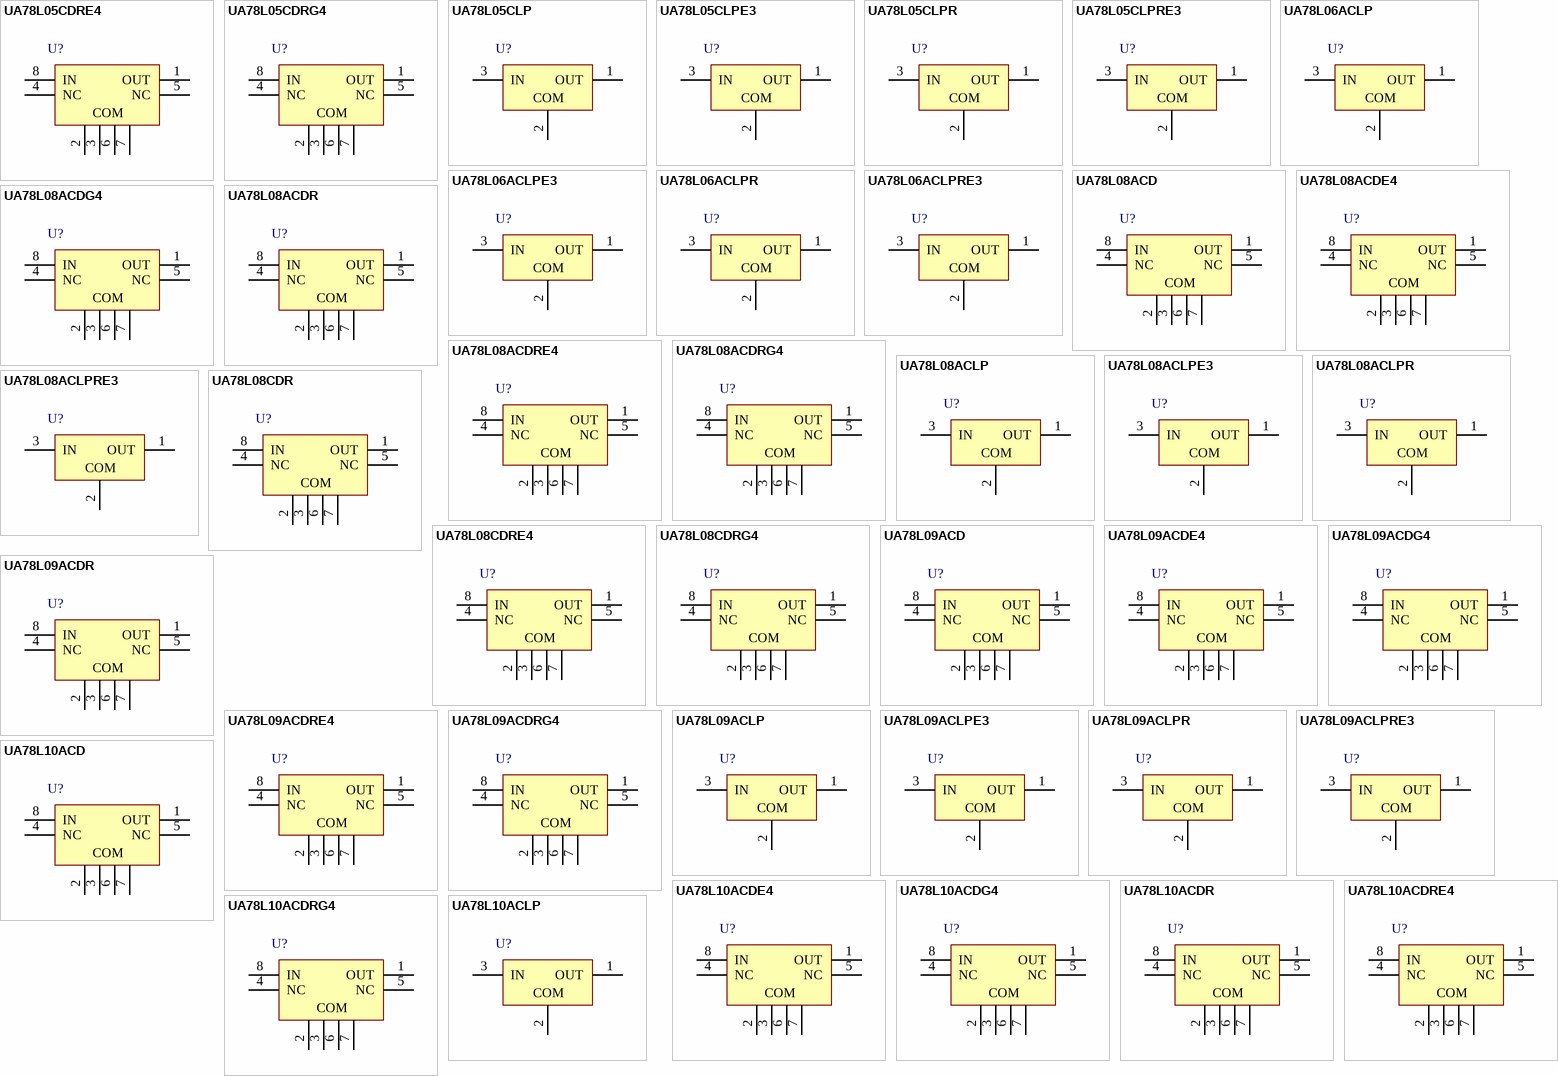
[diagram p4: symbols UA78L05CDRE4 to UA78L10ACLP]